# Altium schematic symbol library MOUNTING_HOLE.SchLib: 1 symbol
Pins are listed as number, name and electrical type; pins without a type are passive.

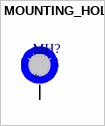
[diagram p0: symbol MOUNTING_HOLE]

## MOUNTING_HOLE
designator MH?
footprint Mounting Hole M3
pins: 0